# Altium integrated library Linear Technology Power Management Switching Regulator LTC1174-LTC3901.IntLib: 2647 symbols (part 83 of 364)
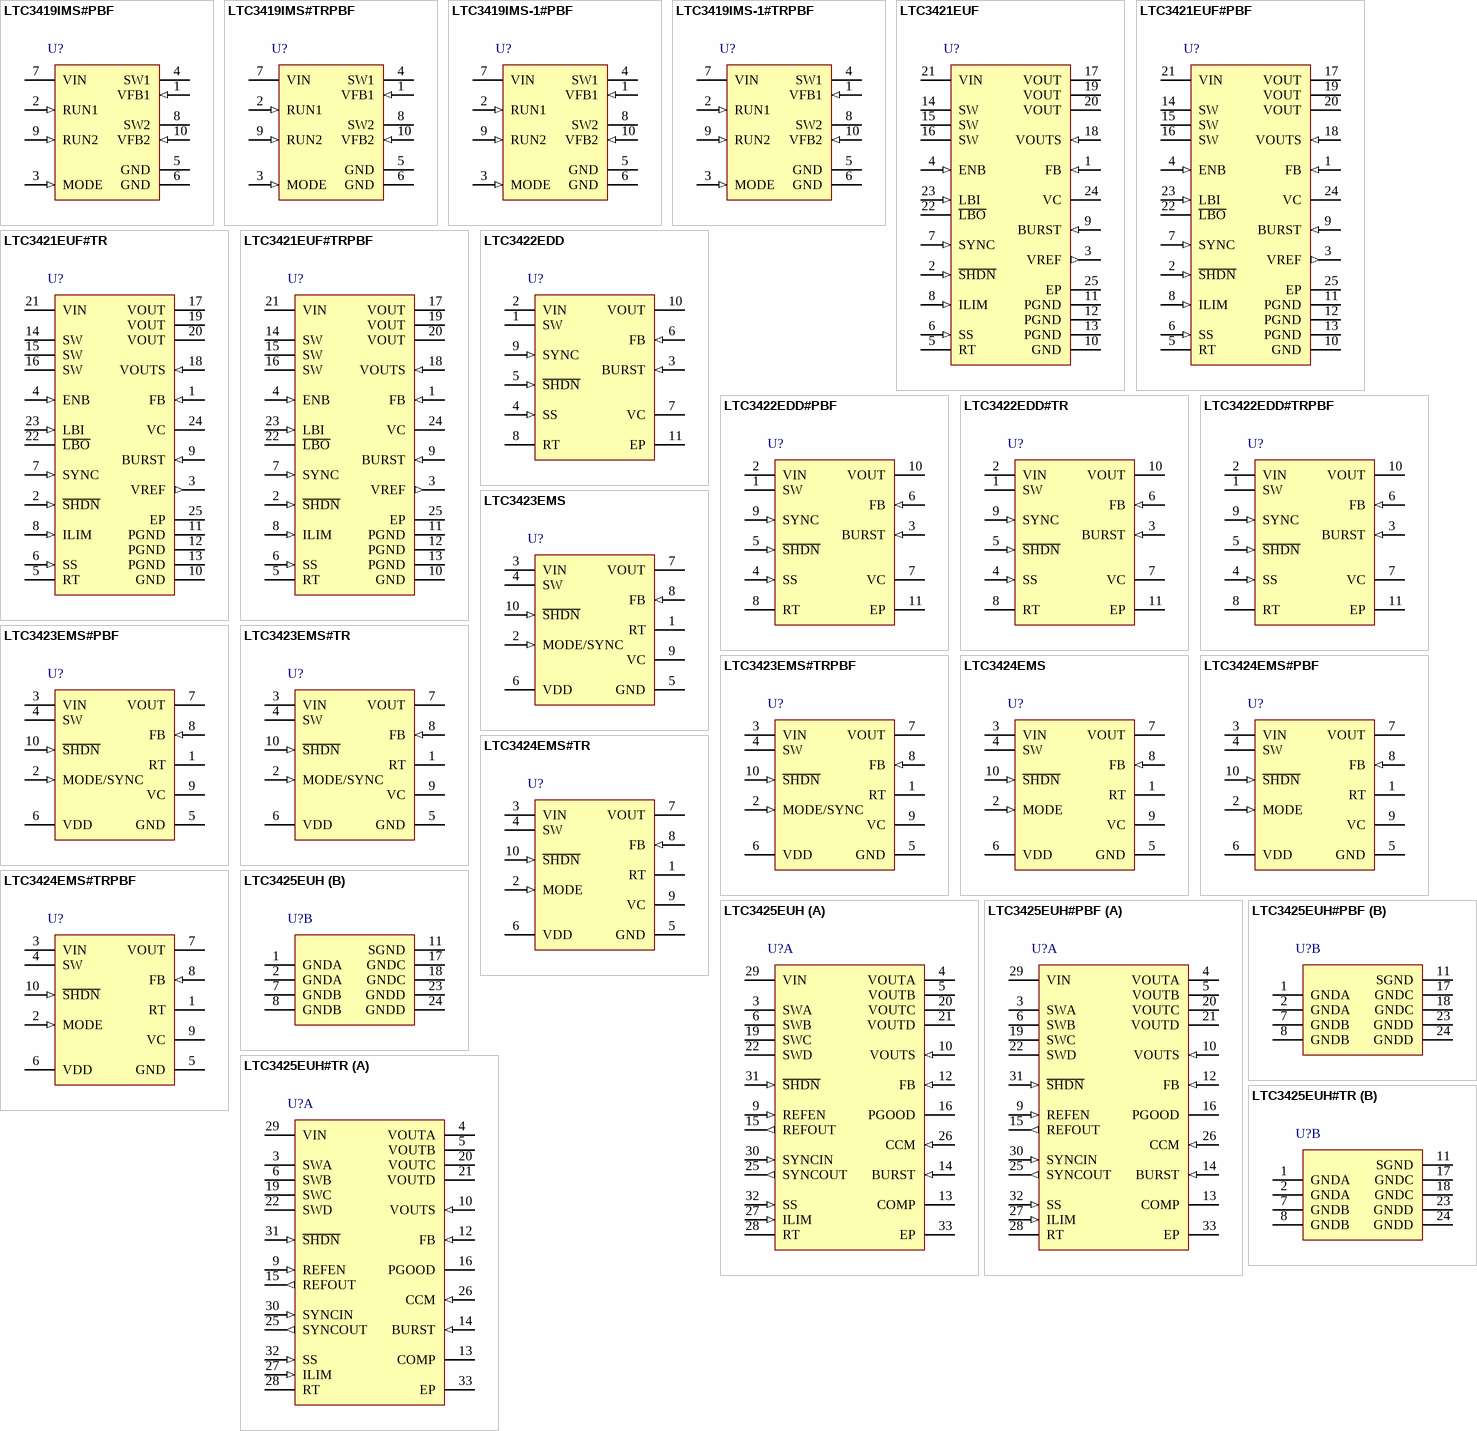
[diagram p257: symbols LTC3419IMS#PBF to LTC3425EUH#TR]

## LTC3425EUH#PBF
designator U?
5 A, 8 MHz, 4-Phase Synchronous Step-Up DC/DC Converter, 32-pin QFN (UH-32), -40 to 85 degC, Pb-Free; Manufacturer: Linear Technology; PartNumber: LTC3425EUH#PBF; Frequency Sync Range: 100kHz - 2MHz; Number of Outputs: 1; PackageVersion: Rev. D, 06/2010; PackageReference: UH-32; PackageDescription: 32-Pin Plastic QFN, Body 5 x 5 mm, Pitch 0.5 mm; Supplier 1: Digi-Key; Supplier Part Number 1: LTC3425EUH#PBF-ND; Supplier 2: Farnell; Supplier Part Number 2: 1273937; Supplier 3: Newark; Supplier Part Number 3: 56M7773; RoHS: TRUE; Mounting Technology: Surface Mount; Code_JEDEC: MO-220; ComponentLink1Description: Manufacturer URL; ComponentLink1URL: http://www.linear.com/; ComponentLink2Description: Datasheet; ComponentLink2URL: http://cds.linear.com/docs/en/datasheet/3425f.pdf; ComponentLink3Description: Package Specification; ComponentLink3URL: http://cds.linear.com/docs/en/packaging/QFN_32_05-08-1693.pdf
footprint LT-UH-32_N (QFN, 32-Leads, Body 5.1x5.1mm, Pitch 0.5mm, Thermal Pad 3.45X3.45mm, IPC Medium Density)
footprint LT-UH-32_L (QFN, 32-Leads, Body 5.1x5.1mm, Pitch 0.5mm, Thermal Pad 3.45X3.45mm, IPC High Density)
footprint LT-UH-32_M (QFN, 32-Leads, Body 5.1x5.1mm, Pitch 0.5mm, Thermal Pad 3.45X3.45mm, IPC Low Density)
part A pins: 3 SWA "Switch Pins. Connect inductors here. Minimize trace length to keep EMI to a minimum. For discontinuous inductor current, a controlled impedance is internally connected from SW to VIN to minimize EMI. For applications where (See Datasheet)", 4 VOUTA (power) "Output of the Four Synchronous Rectifiers. Connect output filter capacitors to these pins. Connect one low ESR ceramic capacitor directly from each pin to the ground plane.", 5 VOUTB (power) "Output of the Four Synchronous Rectifiers. Connect output filter capacitors to these pins. Connect one low ESR ceramic capacitor directly from each pin to the ground plane.", 6 SWB "Switch Pins. Connect inductors here. Minimize trace length to keep EMI to a minimum. For discontinuous inductor current, a controlled impedance is internally connected from SW to VIN to minimize EMI. For applications where (See Datasheet)", 9 REFEN (in) "Pull this pin above 1.4V to enable the REF output. Grounding this pin turns the REF output off to reduce quiescent current.", 10 VOUTS (in) "VOUT Sense Pin. Connect VOUTS directly to an output filter capacitor. The top of the feedback divider network should also be tied to this point.", 12 FB (in) "Feedback Pin. Connect FB to a resistor divider, keeping the trace as short as possible. The output voltage can be adjusted according to the following formula: VOUT = 1.22 x (R1+R2)/R1,where R1 is connected from FB(See Datasheet)", 13 COMP "Error Amp Output. A frequency compensation network is connected from this pin to ground to compensate the loop. See the section Closing the Feedback Loop for guidelines.", 14 BURST (in) "Burst Mode Threshold Adjust Pin. A resistor/capacitor combination from this pin to ground programs the average load current at which automatic Burst Mode operation is entered. For manual control of Burst Mode operation, (See Datasheet)", 15 REFOUT (out) "Buffered 1.22V Reference Output. This pin can source up to 100uA and sink up to 10uA (only active when REFEN is pulled high). This pin must be decoupled with a 0.1uF capacitor for stability.", 16 PGOOD (oc) "Open-Drain Output of the Power Good Comparator. This pin will go low when the output voltage drops 11% below its regulated value. Maximum sink current should be limited to 10mA.", 19 SWC "Switch Pins. Connect inductors here. Minimize trace length to keep EMI to a minimum. For discontinuous inductor current, a controlled impedance is internally connected from SW to VIN to minimize EMI. For applications where (See Datasheet)", 20 VOUTC (power) "Output of the Four Synchronous Rectifiers. Connect output filter capacitors to these pins. Connect one low ESR ceramic capacitor directly from each pin to the ground plane.", 21 VOUTD (power) "Output of the Four Synchronous Rectifiers. Connect output filter capacitors to these pins. Connect one low ESR ceramic capacitor directly from each pin to the ground plane.", 22 SWD "Switch Pins. Connect inductors here. Minimize trace length to keep EMI to a minimum. For discontinuous inductor current, a controlled impedance is internally connected from SW to VIN to minimize EMI. For applications where (See Datasheet)", 25 SYNCOUT (out) "Sync Output Pin. A clock is provided at the oscillator frequency, but phase-shifted 180 degrees to allow for synchronizing two devices for an 8-phase converter.", 26 CCM (in) "This pin is used to select forced continuous conduction mode. Normally this pin is grounded to allow CCM or DCM operation. To force continuous conduction mode, tie this pin to VOUT. In this mode, a reverse current of up to (See Datasheet)", 27 ILIM (in) "Current Limit Adjust Pin. Connect a resistor from ILIM to SGND to set the peak current limit threshold for the N-channel MOSFETs, according to the formula (note that this is the peak current in each inductor): (See Datasheet)", 28 RT "Connect a resistor from RT to SGND (or SGND plane) to program the oscillator frequency, according to the formula:fOSC=60/RT, fSWITCH=fOSC/4=15/RT,where fOSC is in MHz and RT is in kohm.", 29 VIN (power) "Input Supply Pin. Connect this to the input supply and decouple with 1uF minimum low ESR ceramic capacitor.", 30 SYNCIN (in) "Oscillator Synchronization Pin. A clock pulse width of 100ns minimum is required to synchronize the internal oscillator. If not used, SYNCIN should be grounded. The typical logic threshold for this input is:VOUT/2,The SYNCIN (See Datasheet)", 31 ~{SHDN} (in) "Shutdown Pin. Grounding S\H\D\N\ (or pulling it below 0.25V) shuts down the IC. Pull pin up to >=1V to enable. Once enabled, the pin only needs to be >=0.65V.", 32 SS (in) "Soft-Start pin. Connect a capacitor from this pin to ground to set the soft-start time, according to the formula: t(ms) = CSS (uF) x 320,The nominal soft-start charging current is 2.5uA. The active range of SS is from 0.8(See Datasheet)", 33 EP (power) "Additional Power Ground for the IC. Connect directly to the power ground plane."
part B pins: 1 GNDA (power) "Power Ground for the IC and the Four Internal N-channel MOSFETs. Connect directly to the power ground plane.", 2 GNDA (power) "Power Ground for the IC and the Four Internal N-channel MOSFETs. Connect directly to the power ground plane.", 7 GNDB (power) "Power Ground for the IC and the Four Internal N-channel MOSFETs. Connect directly to the power ground plane.", 8 GNDB (power) "Power Ground for the IC and the Four Internal N-channel MOSFETs. Connect directly to the power ground plane.", 11 SGND (power) "Signal Ground Pin. Connect to ground plane, near the feedback divider resistor.", 17 GNDC (power) "Power Ground for the IC and the Four Internal N-channel MOSFETs. Connect directly to the power ground plane.", 18 GNDC (power) "Power Ground for the IC and the Four Internal N-channel MOSFETs. Connect directly to the power ground plane.", 23 GNDD (power) "Power Ground for the IC and the Four Internal N-channel MOSFETs. Connect directly to the power ground plane.", 24 GNDD (power) "Power Ground for the IC and the Four Internal N-channel MOSFETs. Connect directly to the power ground plane."

## LTC3425EUH#TR
designator U?
5 A, 8 MHz, 4-Phase Synchronous Step-Up DC/DC Converter, 32-pin QFN (UH-32), -40 to 85 degC, Tape and Reel; Manufacturer: Linear Technology; PartNumber: LTC3425EUH#TR; Frequency Sync Range: 100kHz - 2MHz; Number of Outputs: 1; PackageVersion: Rev. D, 06/2010; PackageReference: UH-32; PackageDescription: 32-Pin Plastic QFN, Body 5 x 5 mm, Pitch 0.5 mm; Supplier 1: Digi-Key; Supplier Part Number 1: LTC3425EUH#TR-ND; Packing: Tape and Reel; RoHS: FALSE; Mounting Technology: Surface Mount; Code_JEDEC: MO-220; ComponentLink1Description: Manufacturer URL; ComponentLink1URL: http://www.linear.com/; ComponentLink2Description: Datasheet; ComponentLink2URL: http://cds.linear.com/docs/en/datasheet/3425f.pdf; ComponentLink3Description: Package Specification; ComponentLink3URL: http://cds.linear.com/docs/en/packaging/QFN_32_05-08-1693.pdf
footprint LT-UH-32_N (QFN, 32-Leads, Body 5.1x5.1mm, Pitch 0.5mm, Thermal Pad 3.45X3.45mm, IPC Medium Density)
footprint LT-UH-32_L (QFN, 32-Leads, Body 5.1x5.1mm, Pitch 0.5mm, Thermal Pad 3.45X3.45mm, IPC High Density)
footprint LT-UH-32_M (QFN, 32-Leads, Body 5.1x5.1mm, Pitch 0.5mm, Thermal Pad 3.45X3.45mm, IPC Low Density)
part A pins: 3 SWA "Switch Pins. Connect inductors here. Minimize trace length to keep EMI to a minimum. For discontinuous inductor current, a controlled impedance is internally connected from SW to VIN to minimize EMI. For applications where (See Datasheet)", 4 VOUTA (power) "Output of the Four Synchronous Rectifiers. Connect output filter capacitors to these pins. Connect one low ESR ceramic capacitor directly from each pin to the ground plane.", 5 VOUTB (power) "Output of the Four Synchronous Rectifiers. Connect output filter capacitors to these pins. Connect one low ESR ceramic capacitor directly from each pin to the ground plane.", 6 SWB "Switch Pins. Connect inductors here. Minimize trace length to keep EMI to a minimum. For discontinuous inductor current, a controlled impedance is internally connected from SW to VIN to minimize EMI. For applications where (See Datasheet)", 9 REFEN (in) "Pull this pin above 1.4V to enable the REF output. Grounding this pin turns the REF output off to reduce quiescent current.", 10 VOUTS (in) "VOUT Sense Pin. Connect VOUTS directly to an output filter capacitor. The top of the feedback divider network should also be tied to this point.", 12 FB (in) "Feedback Pin. Connect FB to a resistor divider, keeping the trace as short as possible. The output voltage can be adjusted according to the following formula: VOUT = 1.22 x (R1+R2)/R1,where R1 is connected from FB(See Datasheet)", 13 COMP "Error Amp Output. A frequency compensation network is connected from this pin to ground to compensate the loop. See the section Closing the Feedback Loop for guidelines.", 14 BURST (in) "Burst Mode Threshold Adjust Pin. A resistor/capacitor combination from this pin to ground programs the average load current at which automatic Burst Mode operation is entered. For manual control of Burst Mode operation, (See Datasheet)", 15 REFOUT (out) "Buffered 1.22V Reference Output. This pin can source up to 100uA and sink up to 10uA (only active when REFEN is pulled high). This pin must be decoupled with a 0.1uF capacitor for stability.", 16 PGOOD (oc) "Open-Drain Output of the Power Good Comparator. This pin will go low when the output voltage drops 11% below its regulated value. Maximum sink current should be limited to 10mA.", 19 SWC "Switch Pins. Connect inductors here. Minimize trace length to keep EMI to a minimum. For discontinuous inductor current, a controlled impedance is internally connected from SW to VIN to minimize EMI. For applications where (See Datasheet)", 20 VOUTC (power) "Output of the Four Synchronous Rectifiers. Connect output filter capacitors to these pins. Connect one low ESR ceramic capacitor directly from each pin to the ground plane.", 21 VOUTD (power) "Output of the Four Synchronous Rectifiers. Connect output filter capacitors to these pins. Connect one low ESR ceramic capacitor directly from each pin to the ground plane.", 22 SWD "Switch Pins. Connect inductors here. Minimize trace length to keep EMI to a minimum. For discontinuous inductor current, a controlled impedance is internally connected from SW to VIN to minimize EMI. For applications where (See Datasheet)", 25 SYNCOUT (out) "Sync Output Pin. A clock is provided at the oscillator frequency, but phase-shifted 180 degrees to allow for synchronizing two devices for an 8-phase converter.", 26 CCM (in) "This pin is used to select forced continuous conduction mode. Normally this pin is grounded to allow CCM or DCM operation. To force continuous conduction mode, tie this pin to VOUT. In this mode, a reverse current of up to (See Datasheet)", 27 ILIM (in) "Current Limit Adjust Pin. Connect a resistor from ILIM to SGND to set the peak current limit threshold for the N-channel MOSFETs, according to the formula (note that this is the peak current in each inductor): (See Datasheet)", 28 RT "Connect a resistor from RT to SGND (or SGND plane) to program the oscillator frequency, according to the formula:fOSC=60/RT, fSWITCH=fOSC/4=15/RT,where fOSC is in MHz and RT is in kohm.", 29 VIN (power) "Input Supply Pin. Connect this to the input supply and decouple with 1uF minimum low ESR ceramic capacitor.", 30 SYNCIN (in) "Oscillator Synchronization Pin. A clock pulse width of 100ns minimum is required to synchronize the internal oscillator. If not used, SYNCIN should be grounded. The typical logic threshold for this input is:VOUT/2,The SYNCIN (See Datasheet)", 31 ~{SHDN} (in) "Shutdown Pin. Grounding S\H\D\N\ (or pulling it below 0.25V) shuts down the IC. Pull pin up to >=1V to enable. Once enabled, the pin only needs to be >=0.65V.", 32 SS (in) "Soft-Start pin. Connect a capacitor from this pin to ground to set the soft-start time, according to the formula: t(ms) = CSS (uF) x 320,The nominal soft-start charging current is 2.5uA. The active range of SS is from 0.8(See Datasheet)", 33 EP (power) "Additional Power Ground for the IC. Connect directly to the power ground plane."
part B pins: 1 GNDA (power) "Power Ground for the IC and the Four Internal N-channel MOSFETs. Connect directly to the power ground plane.", 2 GNDA (power) "Power Ground for the IC and the Four Internal N-channel MOSFETs. Connect directly to the power ground plane.", 7 GNDB (power) "Power Ground for the IC and the Four Internal N-channel MOSFETs. Connect directly to the power ground plane.", 8 GNDB (power) "Power Ground for the IC and the Four Internal N-channel MOSFETs. Connect directly to the power ground plane.", 11 SGND (power) "Signal Ground Pin. Connect to ground plane, near the feedback divider resistor.", 17 GNDC (power) "Power Ground for the IC and the Four Internal N-channel MOSFETs. Connect directly to the power ground plane.", 18 GNDC (power) "Power Ground for the IC and the Four Internal N-channel MOSFETs. Connect directly to the power ground plane.", 23 GNDD (power) "Power Ground for the IC and the Four Internal N-channel MOSFETs. Connect directly to the power ground plane.", 24 GNDD (power) "Power Ground for the IC and the Four Internal N-channel MOSFETs. Connect directly to the power ground plane."

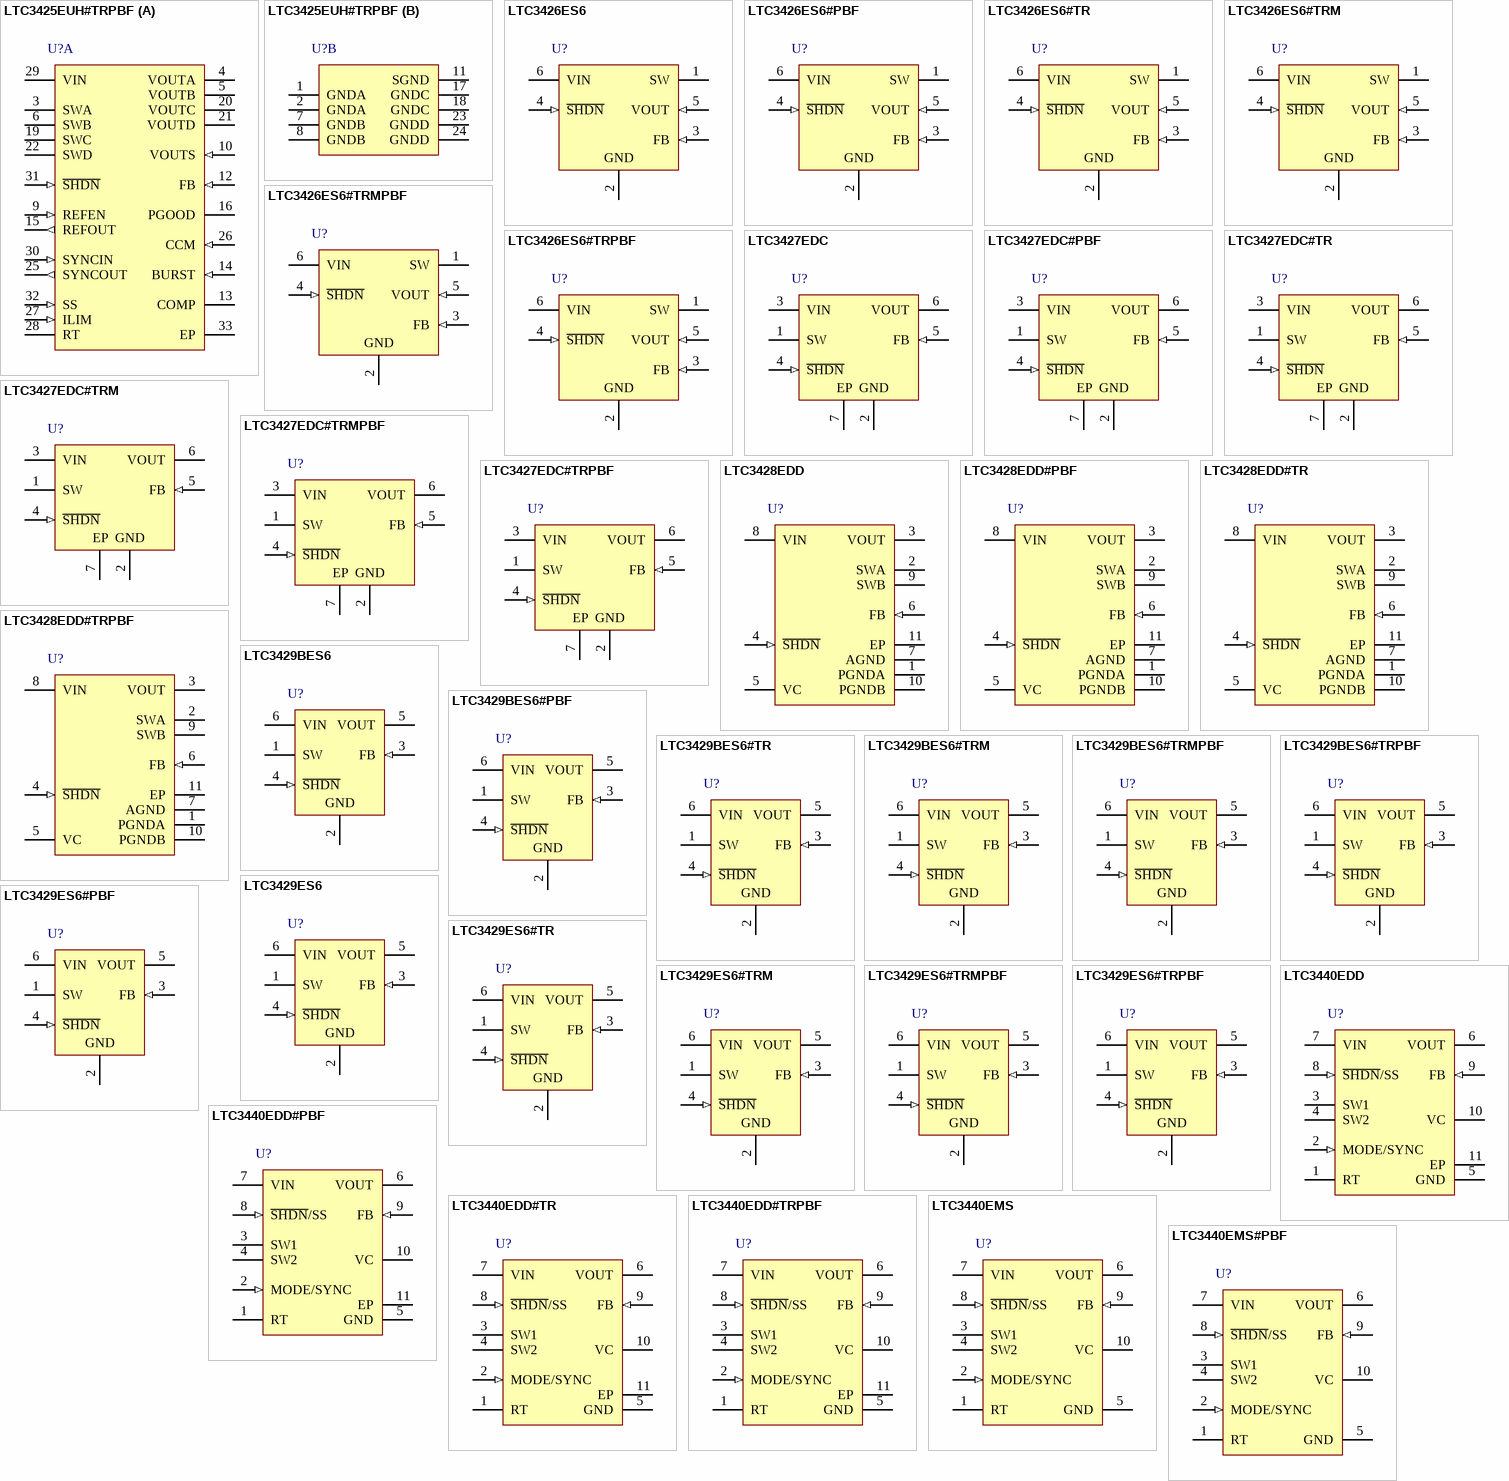
[diagram p26: symbols LTC3425EUH#TRPBF to LTC3440EMS#PBF]